# EAGLE library part DP83848J (library mbed-ics)
National Semiconductor DP83848J PHYTER Mini LS Single Port 10/100 Ethernet Transceiver
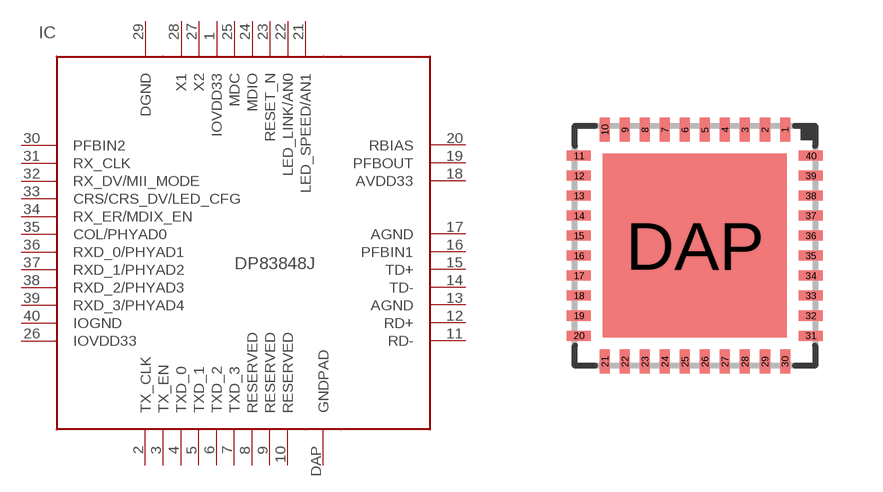
[diagram p1: symbol with the pads of LLP-40; footprint LLP-40]

Designator prefix IC

## DP83848J  [LLP-40]
1  IOVDD33  pwr
2  TX_CLK  out
3  TX_EN  in
4  TXD_0  in
5  TXD_1  in
6  TXD_2
7  TXD_3
8  RESERVED  nc
9  RESERVED  nc
10  RESERVED  nc
11  RD-
12  RD+
13  AGND  pwr
14  TD-
15  TD+
16  PFBIN1  pas
17  AGND  pwr
18  AVDD33  pwr
19  PFBOUT  pas
20  RBIAS  pas
21  LED_SPEED/AN1  out
22  LED_LINK/AN0  out
23  RESET_N  in
24  MDIO
25  MDC  in
26  IOVDD33  pwr
27  X2  pas
28  X1  pas
29  DGND  pwr
30  PFBIN2  pas
31  RX_CLK  out
32  RX_DV/MII_MODE  out
33  CRS/CRS_DV/LED_CFG  out
34  RX_ER/MDIX_EN  out
35  COL/PHYAD0  out
36  RXD_0/PHYAD1  out
37  RXD_1/PHYAD2  out
38  RXD_2/PHYAD3  out
39  RXD_3/PHYAD4  out
40  IOGND  pwr
DAP  GNDPAD  pwr

## Footprint LLP-40 (pad centres in mm)
National SQA40A 40-pin 0.5mm pitch LLP package Thermal vias should be 8mil-13mil (0.2mm-0.33mm), plugged or tented. Paste stencil should be 5mil (0.127mm) thick.
smd 0.25 x 0.6: 1 2.25,2.9; 2 1.75,2.9; 3 1.25,2.9; 4 0.75,2.9; 5 0.25,2.9; 6 -0.25,2.9; 7 -0.75,2.9; 8 -1.25,2.9; 9 -1.75,2.9; 10 -2.25,2.9; 21 -2.25,-2.9; 22 -1.75,-2.9; 23 -1.25,-2.9; 24 -0.75,-2.9; 25 -0.25,-2.9; 26 0.25,-2.9; 27 0.75,-2.9; 28 1.25,-2.9; 29 1.75,-2.9; 30 2.25,-2.9
smd 0.6 x 0.25: 11 -2.9,2.25; 12 -2.9,1.75; 13 -2.9,1.25; 14 -2.9,0.75; 15 -2.9,0.25; 16 -2.9,-0.25; 17 -2.9,-0.75; 18 -2.9,-1.25; 19 -2.9,-1.75; 20 -2.9,-2.25; 31 2.9,-2.25; 32 2.9,-1.75; 33 2.9,-1.25; 34 2.9,-0.75; 35 2.9,-0.25; 36 2.9,0.25; 37 2.9,0.75; 38 2.9,1.25; 39 2.9,1.75; 40 2.9,2.25
smd 4.6 x 4.6: DAP 0,0